# Altium integrated library TI Amplifiers and Linear Special Function Amplifier.IntLib: 708 symbols (part 24 of 47)
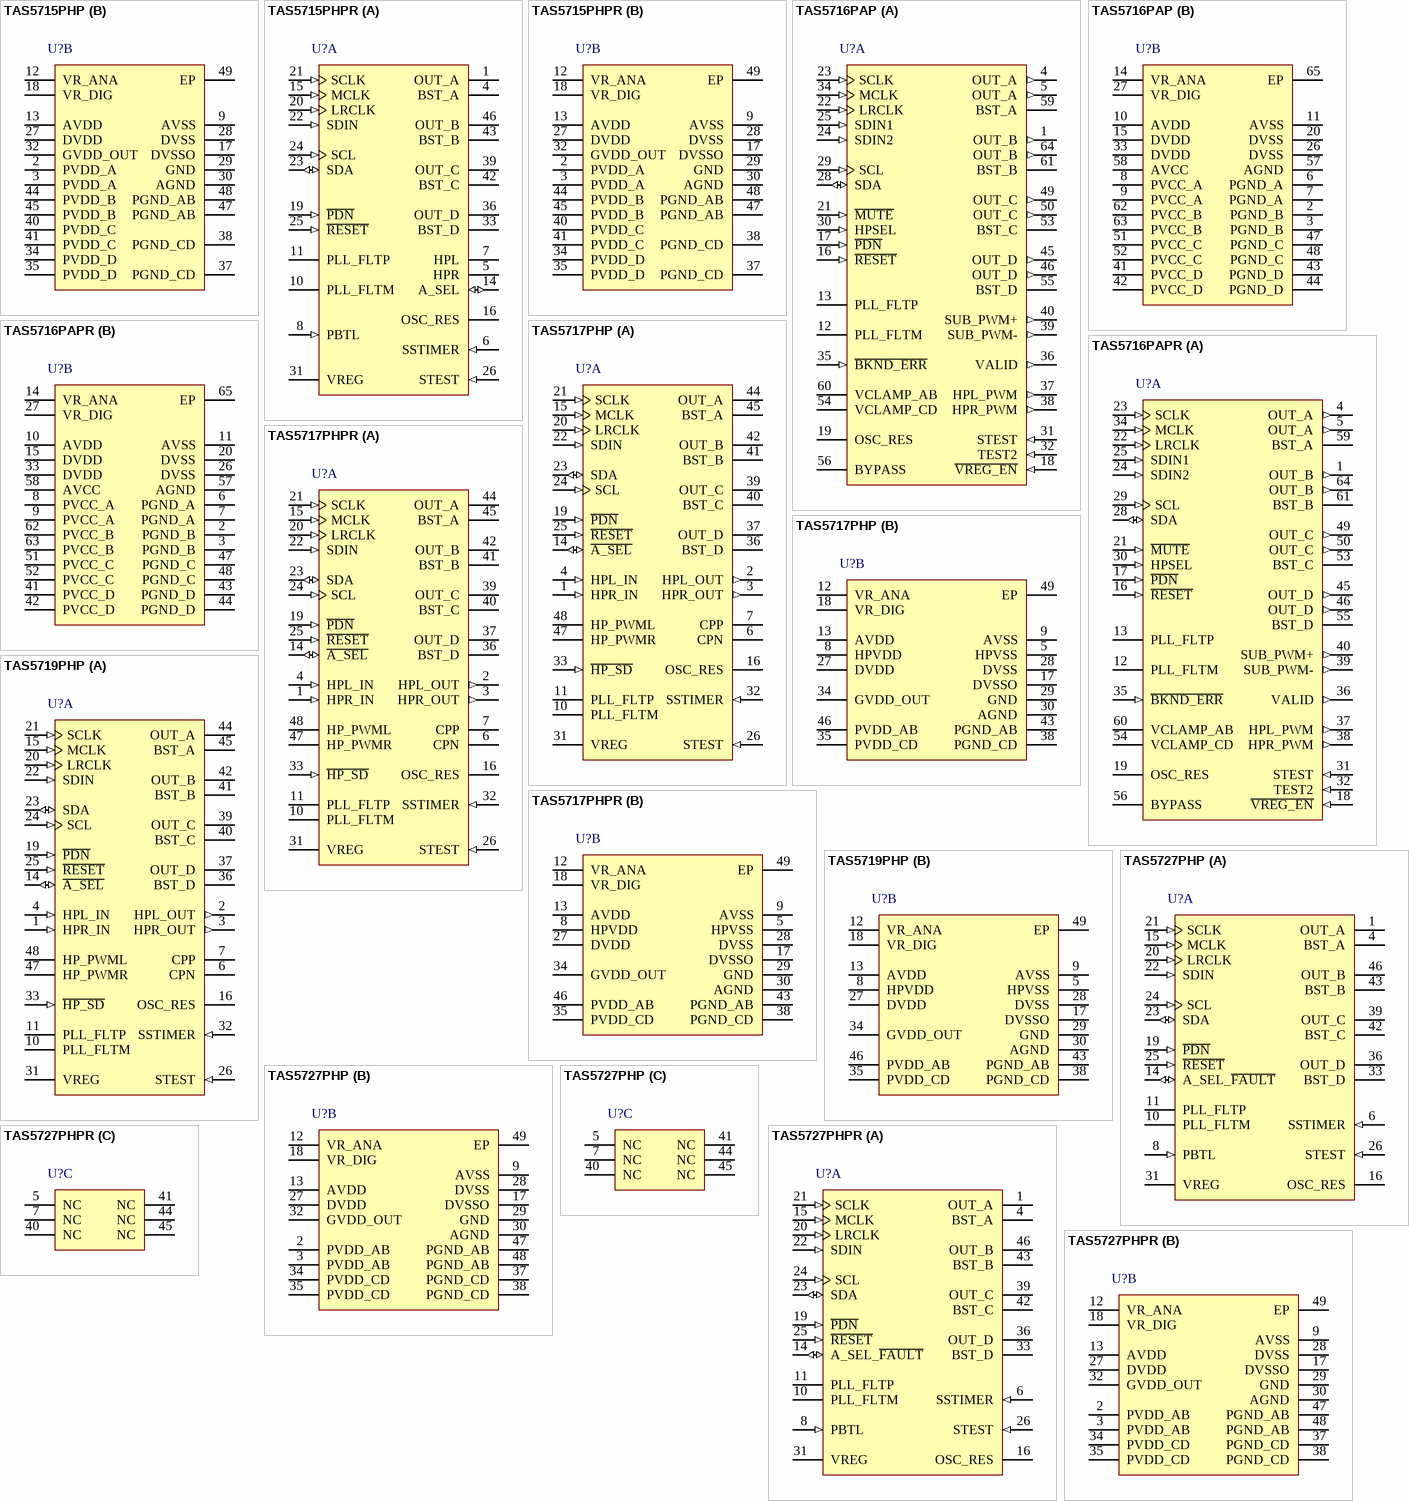
[diagram p62: symbols TAS5715PHP to TAS5727PHPR]

## TAS5717PHPR
designator U?
Digital Input Stereo Amplifier with Integrated CAP Free Headphone Amplifier, 0 to 85 degC, 48-pin QFP (PHP48), Green (RoHS & no Sb/Br); Manufacturer: Texas Instruments; PartNumber: TAS5717PHPR; Analog Supply Max [V]: 3.6; Analog Supply Min [V]: 3; Max. Number of Speaker Outputs: 2; Power Stage Supply Min(V): 4.5; SubFamily: Mid/High-Power Amplifier; DatasheetVersion: SLOS655A; PackageVersion: 4146927/B, 08/2003; PackageReference: PHP48-4550X3600TP; PackageDescription: 48-Pin PowerPAD(TM) Plastic Quad Flatpack, Body 7 x 7 mm, Pitch 0.5 mm; Supplier 1: Digi-Key; Supplier Part Number 1: 296-28062-2-ND; Supplier 2: Digi-Key; Supplier Part Number 2: 296-28062-1-ND; Supplier 3: Digi-Key; Supplier Part Number 3: 296-28062-6-ND; Supplier 4: Farnell; Supplier Part Number 4: 1854555; Supplier 5: Newark; Supplier Part Number 5: 13T8922; Supplier 6: Mouser; Supplier Part Number 6: 595-TAS5717PHPR; Digital Supply Min [V]: 3; Eco-Plan: Green (RoHS & no Sb/Br); Input Type: Digital; Mounting Technology: Surface Mount; Code_JEDEC: MS-026; ComponentLink1Description: Manufacturer URL; ComponentLink1URL: http://www.ti.com/; ComponentLink2Description: Datasheet; ComponentLink2URL: http://www.ti.com/general/docs/lit/getliterature.tsp?genericPartNumber=TAS5717&fileType=pdf; ComponentLink3Description: Package Specification; ComponentLink3URL: http://www.ti.com/litv/pdf/mpdi001b
footprint TI-PHP48-4550X3600TP_N (QFP, 48-Leads, Body 7x7mm, Pitch 0.5mm, Thermal Pad 5.17x4.04mm, IPC Medium Density)
footprint TI-PHP48-4550X3600TP_L (QFP, 48-Leads, Body 7x7mm, Pitch 0.5mm, Thermal Pad 5.17x4.04mm, IPC High Density)
footprint TI-PHP48-4550X3600TP_M (QFP, 48-Leads, Body 7x7mm, Pitch 0.5mm, Thermal Pad 5.17x4.04mm, IPC Low Density)
part A pins: 1 HPR_IN (in) "Headphone left IN (single-ended, analog IN)", 2 HPL_OUT (out) "Headphone left OUT (single-ended, analog OUT)", 3 HPR_OUT (out) "Headphone right OUT (single-ended, analog OUT)", 4 HPL_IN (in) "Headphone right IN (single-ended, analog IN)", 6 CPN "Charge-pump flying-capacitor negative connection", 7 CPP "Charge-pump flying-capacitor positive connection", 10 PLL_FLTM "PLL negative loop-filter terminal", 11 PLL_FLTP "PLL positive loop-filter terminal", 14 ~{A_SEL} (io) "This pin is monitored on the rising edge of RESET. A value of 0 makes the I2C dev address 0x54, and a value of 1 makes it 0x56.", 15 MCLK (in) "Master clock input", 16 OSC_RES "Oscillator trim resistor. Connect an 18-kO 1% resistor to DVSSO.", 19 ~{PDN} (in) "Power down, active-low. P\D\N\ prepares the device for loss of power supplies by shutting down the noise shaper and initiating the PWM stop sequence.", 20 LRCLK (in) "Input serial audio data left/right clock (sample rate clock)", 21 SCLK (in) "Serial audio data clock (shift clock). SCLK is the serial audio port input data bit clock.", 22 SDIN (in) "Serial audio data input. SDIN supports three discrete (stereo) data formats.", 23 SDA (io) "I2C serial control data interface input/output", 24 SCL (in) "I2C serial control clock input", 25 ~{RESET} (in) "Reset, active-low. A system reset is generated by applying a logic low to this pin. R\E\S\E\T\ is an asynchronous control signal that restores the DAP to its default conditions, and places the PWM in the hard-mute (See Datasheet)", 26 STEST (in) "Factory test pin. Connect directly to DVSS.", 31 VREG "Digital regulator output. Not to be used for powering external circuitry.", 32 SSTIMER (in) "Controls ramp time of OUT_X to minimize pop. Leave this pin floating for BD mode. Requires capacitor of 2.2 nF to GND in AD mode. The capacitor determines the ramp time.", 33 ~{HP_SD} (in) "Headphone shutdown (active-low)", 36 BST_D "High-side bootstrap supply for half-bridge D", 37 OUT_D (hiz) "Output, half-bridge D", 39 OUT_C (hiz) "Output, half-bridge C", 40 BST_C "High-side bootstrap supply for half-bridge C", 41 BST_B "High-side bootstrap supply for half-bridge B", 42 OUT_B (hiz) "Output, half-bridge B", 44 OUT_A (hiz) "Output, half-bridge A", 45 BST_A "High-side bootstrap supply for half-bridge A", 47 HP_PWMR (hiz) "PWM right-channel headphone out", 48 HP_PWML (hiz) "PWM left-channel headphone out"
part B pins: 5 HPVSS (power) "Headphone ground", 8 HPVDD (power) "Headphone supply", 9 AVSS (power) "Analog 3.3-V supply ground", 12 VR_ANA (power) "Internally regulated 1.8-V analog supply voltage. This pin must not be used to power external devices.", 13 AVDD (power) "3.3-V analog power supply", 17 DVSSO (power) "Oscillator ground", 18 VR_DIG (power) "Internally regulated 1.8-V digital supply voltage. This pin must not be used to power external devices.", 27 DVDD (power) "3.3-V digital power supply", 28 DVSS (power) "Digital ground", 29 GND (power) "Analog ground for power stage", 30 AGND (power) "Analog ground for power stage", 34 GVDD_OUT (power) "Gate drive internal regulator output", 35 PVDD_CD (power) "Power-supply input for half-bridge output C", 38 PGND_CD (power) "Power ground for half-bridges C and D", 43 PGND_AB (power) "Power ground for half-bridges A and B", 46 PVDD_AB (power) "Power-supply input for half-bridge output A", 49 EP

## TAS5719PHP
designator U?
Digital Input Stereo Amplifier with Integrated CAP Free Headphone Amplifier, 0 to 85 degC, 48-pin QFP (PHP48), Green (RoHS & no Sb/Br); Manufacturer: Texas Instruments; PartNumber: TAS5719PHP; Analog Supply Max [V]: 3.6; Analog Supply Min [V]: 3; Max. Number of Speaker Outputs: 2; Power Stage Supply Min(V): 4.5; SubFamily: Mid/High-Power Amplifier; DatasheetVersion: SLOS655A; PackageVersion: 4146927/B, 08/2003; PackageReference: PHP48-4550X3600TP; PackageDescription: 48-Pin PowerPAD(TM) Plastic Quad Flatpack, Body 7 x 7 mm, Pitch 0.5 mm; Supplier 1: Digi-Key; Supplier Part Number 1: 296-36735-ND; Supplier 2: Mouser; Supplier Part Number 2: 595-TAS5719PHP; Digital Supply Min [V]: 3; Eco-Plan: Green (RoHS & no Sb/Br); Input Type: Digital; Mounting Technology: Surface Mount; Code_JEDEC: MS-026; ComponentLink1Description: Manufacturer URL; ComponentLink1URL: http://www.ti.com/; ComponentLink2Description: Datasheet; ComponentLink2URL: http://www.ti.com/general/docs/lit/getliterature.tsp?genericPartNumber=TAS5719&fileType=pdf; ComponentLink3Description: Package Specification; ComponentLink3URL: http://www.ti.com/litv/pdf/mpdi001b
footprint TI-PHP48-4550X3600TP_N (QFP, 48-Leads, Body 7x7mm, Pitch 0.5mm, Thermal Pad 5.17x4.04mm, IPC Medium Density)
footprint TI-PHP48-4550X3600TP_L (QFP, 48-Leads, Body 7x7mm, Pitch 0.5mm, Thermal Pad 5.17x4.04mm, IPC High Density)
footprint TI-PHP48-4550X3600TP_M (QFP, 48-Leads, Body 7x7mm, Pitch 0.5mm, Thermal Pad 5.17x4.04mm, IPC Low Density)
part A pins: 1 HPR_IN (in) "Headphone left IN (single-ended, analog IN)", 2 HPL_OUT (out) "Headphone left OUT (single-ended, analog OUT)", 3 HPR_OUT (out) "Headphone right OUT (single-ended, analog OUT)", 4 HPL_IN (in) "Headphone right IN (single-ended, analog IN)", 6 CPN "Charge-pump flying-capacitor negative connection", 7 CPP "Charge-pump flying-capacitor positive connection", 10 PLL_FLTM "PLL negative loop-filter terminal", 11 PLL_FLTP "PLL positive loop-filter terminal", 14 ~{A_SEL} (io) "This pin is monitored on the rising edge of RESET. A value of 0 makes the I2C dev address 0x54, and a value of 1 makes it 0x56.", 15 MCLK (in) "Master clock input", 16 OSC_RES "Oscillator trim resistor. Connect an 18-kO 1% resistor to DVSSO.", 19 ~{PDN} (in) "Power down, active-low. P\D\N\ prepares the device for loss of power supplies by shutting down the noise shaper and initiating the PWM stop sequence.", 20 LRCLK (in) "Input serial audio data left/right clock (sample rate clock)", 21 SCLK (in) "Serial audio data clock (shift clock). SCLK is the serial audio port input data bit clock.", 22 SDIN (in) "Serial audio data input. SDIN supports three discrete (stereo) data formats.", 23 SDA (io) "I2C serial control data interface input/output", 24 SCL (in) "I2C serial control clock input", 25 ~{RESET} (in) "Reset, active-low. A system reset is generated by applying a logic low to this pin. R\E\S\E\T\ is an asynchronous control signal that restores the DAP to its default conditions, and places the PWM in the hard-mute (See Datasheet)", 26 STEST (in) "Factory test pin. Connect directly to DVSS.", 31 VREG "Digital regulator output. Not to be used for powering external circuitry.", 32 SSTIMER (in) "Controls ramp time of OUT_X to minimize pop. Leave this pin floating for BD mode. Requires capacitor of 2.2 nF to GND in AD mode. The capacitor determines the ramp time.", 33 ~{HP_SD} (in) "Headphone shutdown (active-low)", 36 BST_D "High-side bootstrap supply for half-bridge D", 37 OUT_D (hiz) "Output, half-bridge D", 39 OUT_C (hiz) "Output, half-bridge C", 40 BST_C "High-side bootstrap supply for half-bridge C", 41 BST_B "High-side bootstrap supply for half-bridge B", 42 OUT_B (hiz) "Output, half-bridge B", 44 OUT_A (hiz) "Output, half-bridge A", 45 BST_A "High-side bootstrap supply for half-bridge A", 47 HP_PWMR (hiz) "PWM right-channel headphone out", 48 HP_PWML (hiz) "PWM left-channel headphone out"
part B pins: 5 HPVSS (power) "Headphone ground", 8 HPVDD (power) "Headphone supply", 9 AVSS (power) "Analog 3.3-V supply ground", 12 VR_ANA (power) "Internally regulated 1.8-V analog supply voltage. This pin must not be used to power external devices.", 13 AVDD (power) "3.3-V analog power supply", 17 DVSSO (power) "Oscillator ground", 18 VR_DIG (power) "Internally regulated 1.8-V digital supply voltage. This pin must not be used to power external devices.", 27 DVDD (power) "3.3-V digital power supply", 28 DVSS (power) "Digital ground", 29 GND (power) "Analog ground for power stage", 30 AGND (power) "Analog ground for power stage", 34 GVDD_OUT (power) "Gate drive internal regulator output", 35 PVDD_CD (power) "Power-supply input for half-bridge output C", 38 PGND_CD (power) "Power ground for half-bridges C and D", 43 PGND_AB (power) "Power ground for half-bridges A and B", 46 PVDD_AB (power) "Power-supply input for half-bridge output A", 49 EP

## TAS5727PHP
designator U?
25 W Digital Audio Power Amplifier with EQ and 2-Band DRC, 0 to 85 degC, 48-pin QFP (PHP48), Green (RoHS & no Sb/Br); Manufacturer: Texas Instruments; PartNumber: TAS5727PHP; Analog Supply Max [V]: 3.6; Analog Supply Min [V]: 3; Power Stage Supply Min(V): 8; SubFamily: Mid/High-Power Amplifier; DatasheetVersion: SLOS670; PackageVersion: 4146927/B, 08/2003; PackageReference: PHP48-4550X3600TP; PackageDescription: 48-Pin PowerPAD(TM) Plastic Quad Flatpack, Body 7 x 7 mm, Pitch 0.5 mm; Supplier 1: Digi-Key; Supplier Part Number 1: 296-32736-ND; Supplier 2: Farnell; Supplier Part Number 2: 1882265; Supplier 3: Newark; Supplier Part Number 3: 32T3258; Supplier 4: Mouser; Supplier Part Number 4: 595-TAS5727PHP; Digital Supply Min [V]: 3; Eco-Plan: Green (RoHS & no Sb/Br); Input Type: Digital; Mounting Technology: Surface Mount; Code_JEDEC: MS-026; ComponentLink1Description: Manufacturer URL; ComponentLink1URL: http://www.ti.com/; ComponentLink2Description: Datasheet; ComponentLink2URL: http://www.ti.com/general/docs/lit/getliterature.tsp?genericPartNumber=TAS5727A&fileType=pdf; ComponentLink3Description: Package Specification; ComponentLink3URL: http://www.ti.com/litv/pdf/mpdi001b
footprint TI-PHP48-4550X3600TP_N (QFP, 48-Leads, Body 7x7mm, Pitch 0.5mm, Thermal Pad 5.17x4.04mm, IPC Medium Density)
footprint TI-PHP48-4550X3600TP_L (QFP, 48-Leads, Body 7x7mm, Pitch 0.5mm, Thermal Pad 5.17x4.04mm, IPC High Density)
footprint TI-PHP48-4550X3600TP_M (QFP, 48-Leads, Body 7x7mm, Pitch 0.5mm, Thermal Pad 5.17x4.04mm, IPC Low Density)
part A pins: 1 OUT_A (hiz) "Output, half-bridge A", 4 BST_A "High-side bootstrap supply for half-bridge A", 6 SSTIMER (in) "Controls ramp time of OUT_x to minimize pop. Leave this pin floating for BD mode. Requires capacitor of 2.2 nF to GND in AD mode. The capacitor determines the ramp time.", 8 PBTL (in) "Low means BTL mode; high means PBTL mode. Information goes directly to power stage.", 10 PLL_FLTM "PLL negative loop-filter terminal", 11 PLL_FLTP "PLL positive loop-filter terminal", 14 A_SEL_~{FAULT} (io) "This pin is monitored on the rising edge of R\E\S\E\T\.A value of 0 (15-kohm pulldown) sets the I2C device address 0x54 and a value of 1 (15-kohm pullup) sets it 0x56.this dual-function pin can be programmed to output (See Datasheet)", 15 MCLK (in) "Master clock input", 16 OSC_RES "Oscillator trim resistor. Connect an 18.2-kohm, 1% resistor to DVSSO.", 19 ~{PDN} (in) "Power down, active-low. P\D\N\ prepares the device for loss of power supplies by shutting down the noise shaper and initiating the PWM stop sequence.", 20 LRCLK (in) "Input serial audio data left/right clock (sample-rate clock)", 21 SCLK (in) "Serial audio-data clock (shift clock). SCLK is the serial-audio-port input-data bit clock.", 22 SDIN (in) "Serial audio data input. SDIN supports three discrete (stereo) data formats.", 23 SDA (io) "I2C serial control data interface input/output", 24 SCL (in) "I2C serial control clock input", 25 ~{RESET} (in) "Reset, active-low. A system reset is generated by applying a logic low to this pin. R\E\S\E\T\ is an asynchronous control signal that restores the DAP to its default conditions and places the PWM in the hard-mute (See Datasheet)", 26 STEST (in) "Factory test pin. Connect directly to DVSS.", 31 VREG "Digital regulator output. Not to be used for powering external circuitry.", 33 BST_D "High-side bootstrap supply for half-bridge D", 36 OUT_D (hiz) "Output, half-bridge D", 39 OUT_C (hiz) "Output, half-bridge C", 42 BST_C "High-side bootstrap supply for half-bridge C", 43 BST_B "High-side bootstrap supply for half-bridge B", 46 OUT_B (hiz) "Output, half-bridge B"
part B pins: 2 PVDD_AB (power) "Power-supply input for half-bridge output A", 3 PVDD_AB (power) "Power-supply input for half-bridge output A", 9 AVSS (power) "Analog 3.3-V supply ground", 12 VR_ANA (power) "Internally regulated 1.8-V analog supply voltage. This pin must not be used to power external devices.", 13 AVDD (power) "3.3-V analog power supply", 17 DVSSO (power) "Oscillator ground", 18 VR_DIG (power) "Internally regulated 1.8-V digital supply voltage. This pin must not be used to power external devices.", 27 DVDD (power) "3.3-V digital power supply", 28 DVSS (power) "Digital ground", 29 GND (power) "Analog ground for power stage", 30 AGND (power) "Local analog ground for power stage", 32 GVDD_OUT (power) "Gate drive internal regulator output", 34 PVDD_CD (power) "Power-supply input for half-bridge output D", 35 PVDD_CD (power) "Power-supply input for half-bridge output D", 37 PGND_CD (power) "Power ground for half-bridges C and D", 38 PGND_CD (power) "Power ground for half-bridges C and D", 47 PGND_AB (power) "Power ground for half-bridges A and B", 48 PGND_AB (power) "Power ground for half-bridges A and B", 49 EP
part C pins: 5 NC "No connect", 7 NC "No connect", 40 NC "No connect", 41 NC "No connect", 44 NC "No connect", 45 NC "No connect"

## TAS5727PHPR
designator U?
25 W Digital Audio Power Amplifier with EQ and 2-Band DRC, 0 to 85 degC, 48-pin QFP (PHP48), Green (RoHS & no Sb/Br); Manufacturer: Texas Instruments; PartNumber: TAS5727PHPR; Analog Supply Max [V]: 3.6; Analog Supply Min [V]: 3; Power Stage Supply Min(V): 8; SubFamily: Mid/High-Power Amplifier; DatasheetVersion: SLOS670; PackageVersion: 4146927/B, 08/2003; PackageReference: PHP48-4550X3600TP; PackageDescription: 48-Pin PowerPAD(TM) Plastic Quad Flatpack, Body 7 x 7 mm, Pitch 0.5 mm; Supplier 1: Digi-Key; Supplier Part Number 1: 296-28257-2-ND; Supplier 2: Digi-Key; Supplier Part Number 2: 296-28257-1-ND; Supplier 3: Digi-Key; Supplier Part Number 3: 296-28257-6-ND; Supplier 4: Newark; Supplier Part Number 4: 32T2368; Supplier 5: Mouser; Supplier Part Number 5: 595-TAS5727PHPR; Digital Supply Min [V]: 3; Eco-Plan: Green (RoHS & no Sb/Br); Input Type: Digital; Mounting Technology: Surface Mount; Code_JEDEC: MS-026; ComponentLink1Description: Manufacturer URL; ComponentLink1URL: http://www.ti.com/; ComponentLink2Description: Datasheet; ComponentLink2URL: http://www.ti.com/general/docs/lit/getliterature.tsp?genericPartNumber=TAS5727A&fileType=pdf; ComponentLink3Description: Package Specification; ComponentLink3URL: http://www.ti.com/litv/pdf/mpdi001b
footprint TI-PHP48-4550X3600TP_N (QFP, 48-Leads, Body 7x7mm, Pitch 0.5mm, Thermal Pad 5.17x4.04mm, IPC Medium Density)
footprint TI-PHP48-4550X3600TP_L (QFP, 48-Leads, Body 7x7mm, Pitch 0.5mm, Thermal Pad 5.17x4.04mm, IPC High Density)
footprint TI-PHP48-4550X3600TP_M (QFP, 48-Leads, Body 7x7mm, Pitch 0.5mm, Thermal Pad 5.17x4.04mm, IPC Low Density)
part A pins: 1 OUT_A (hiz) "Output, half-bridge A", 4 BST_A "High-side bootstrap supply for half-bridge A", 6 SSTIMER (in) "Controls ramp time of OUT_x to minimize pop. Leave this pin floating for BD mode. Requires capacitor of 2.2 nF to GND in AD mode. The capacitor determines the ramp time.", 8 PBTL (in) "Low means BTL mode; high means PBTL mode. Information goes directly to power stage.", 10 PLL_FLTM "PLL negative loop-filter terminal", 11 PLL_FLTP "PLL positive loop-filter terminal", 14 A_SEL_~{FAULT} (io) "This pin is monitored on the rising edge of R\E\S\E\T\.A value of 0 (15-kohm pulldown) sets the I2C device address 0x54 and a value of 1 (15-kohm pullup) sets it 0x56.this dual-function pin can be programmed to output (See Datasheet)", 15 MCLK (in) "Master clock input", 16 OSC_RES "Oscillator trim resistor. Connect an 18.2-kohm, 1% resistor to DVSSO.", 19 ~{PDN} (in) "Power down, active-low. P\D\N\ prepares the device for loss of power supplies by shutting down the noise shaper and initiating the PWM stop sequence.", 20 LRCLK (in) "Input serial audio data left/right clock (sample-rate clock)", 21 SCLK (in) "Serial audio-data clock (shift clock). SCLK is the serial-audio-port input-data bit clock.", 22 SDIN (in) "Serial audio data input. SDIN supports three discrete (stereo) data formats.", 23 SDA (io) "I2C serial control data interface input/output", 24 SCL (in) "I2C serial control clock input", 25 ~{RESET} (in) "Reset, active-low. A system reset is generated by applying a logic low to this pin. R\E\S\E\T\ is an asynchronous control signal that restores the DAP to its default conditions and places the PWM in the hard-mute (See Datasheet)", 26 STEST (in) "Factory test pin. Connect directly to DVSS.", 31 VREG "Digital regulator output. Not to be used for powering external circuitry.", 33 BST_D "High-side bootstrap supply for half-bridge D", 36 OUT_D (hiz) "Output, half-bridge D", 39 OUT_C (hiz) "Output, half-bridge C", 42 BST_C "High-side bootstrap supply for half-bridge C", 43 BST_B "High-side bootstrap supply for half-bridge B", 46 OUT_B (hiz) "Output, half-bridge B"
part B pins: 2 PVDD_AB (power) "Power-supply input for half-bridge output A", 3 PVDD_AB (power) "Power-supply input for half-bridge output A", 9 AVSS (power) "Analog 3.3-V supply ground", 12 VR_ANA (power) "Internally regulated 1.8-V analog supply voltage. This pin must not be used to power external devices.", 13 AVDD (power) "3.3-V analog power supply", 17 DVSSO (power) "Oscillator ground", 18 VR_DIG (power) "Internally regulated 1.8-V digital supply voltage. This pin must not be used to power external devices.", 27 DVDD (power) "3.3-V digital power supply", 28 DVSS (power) "Digital ground", 29 GND (power) "Analog ground for power stage", 30 AGND (power) "Local analog ground for power stage", 32 GVDD_OUT (power) "Gate drive internal regulator output", 34 PVDD_CD (power) "Power-supply input for half-bridge output D", 35 PVDD_CD (power) "Power-supply input for half-bridge output D", 37 PGND_CD (power) "Power ground for half-bridges C and D", 38 PGND_CD (power) "Power ground for half-bridges C and D", 47 PGND_AB (power) "Power ground for half-bridges A and B", 48 PGND_AB (power) "Power ground for half-bridges A and B", 49 EP
part C pins: 5 NC "No connect", 7 NC "No connect", 40 NC "No connect", 41 NC "No connect", 44 NC "No connect", 45 NC "No connect"

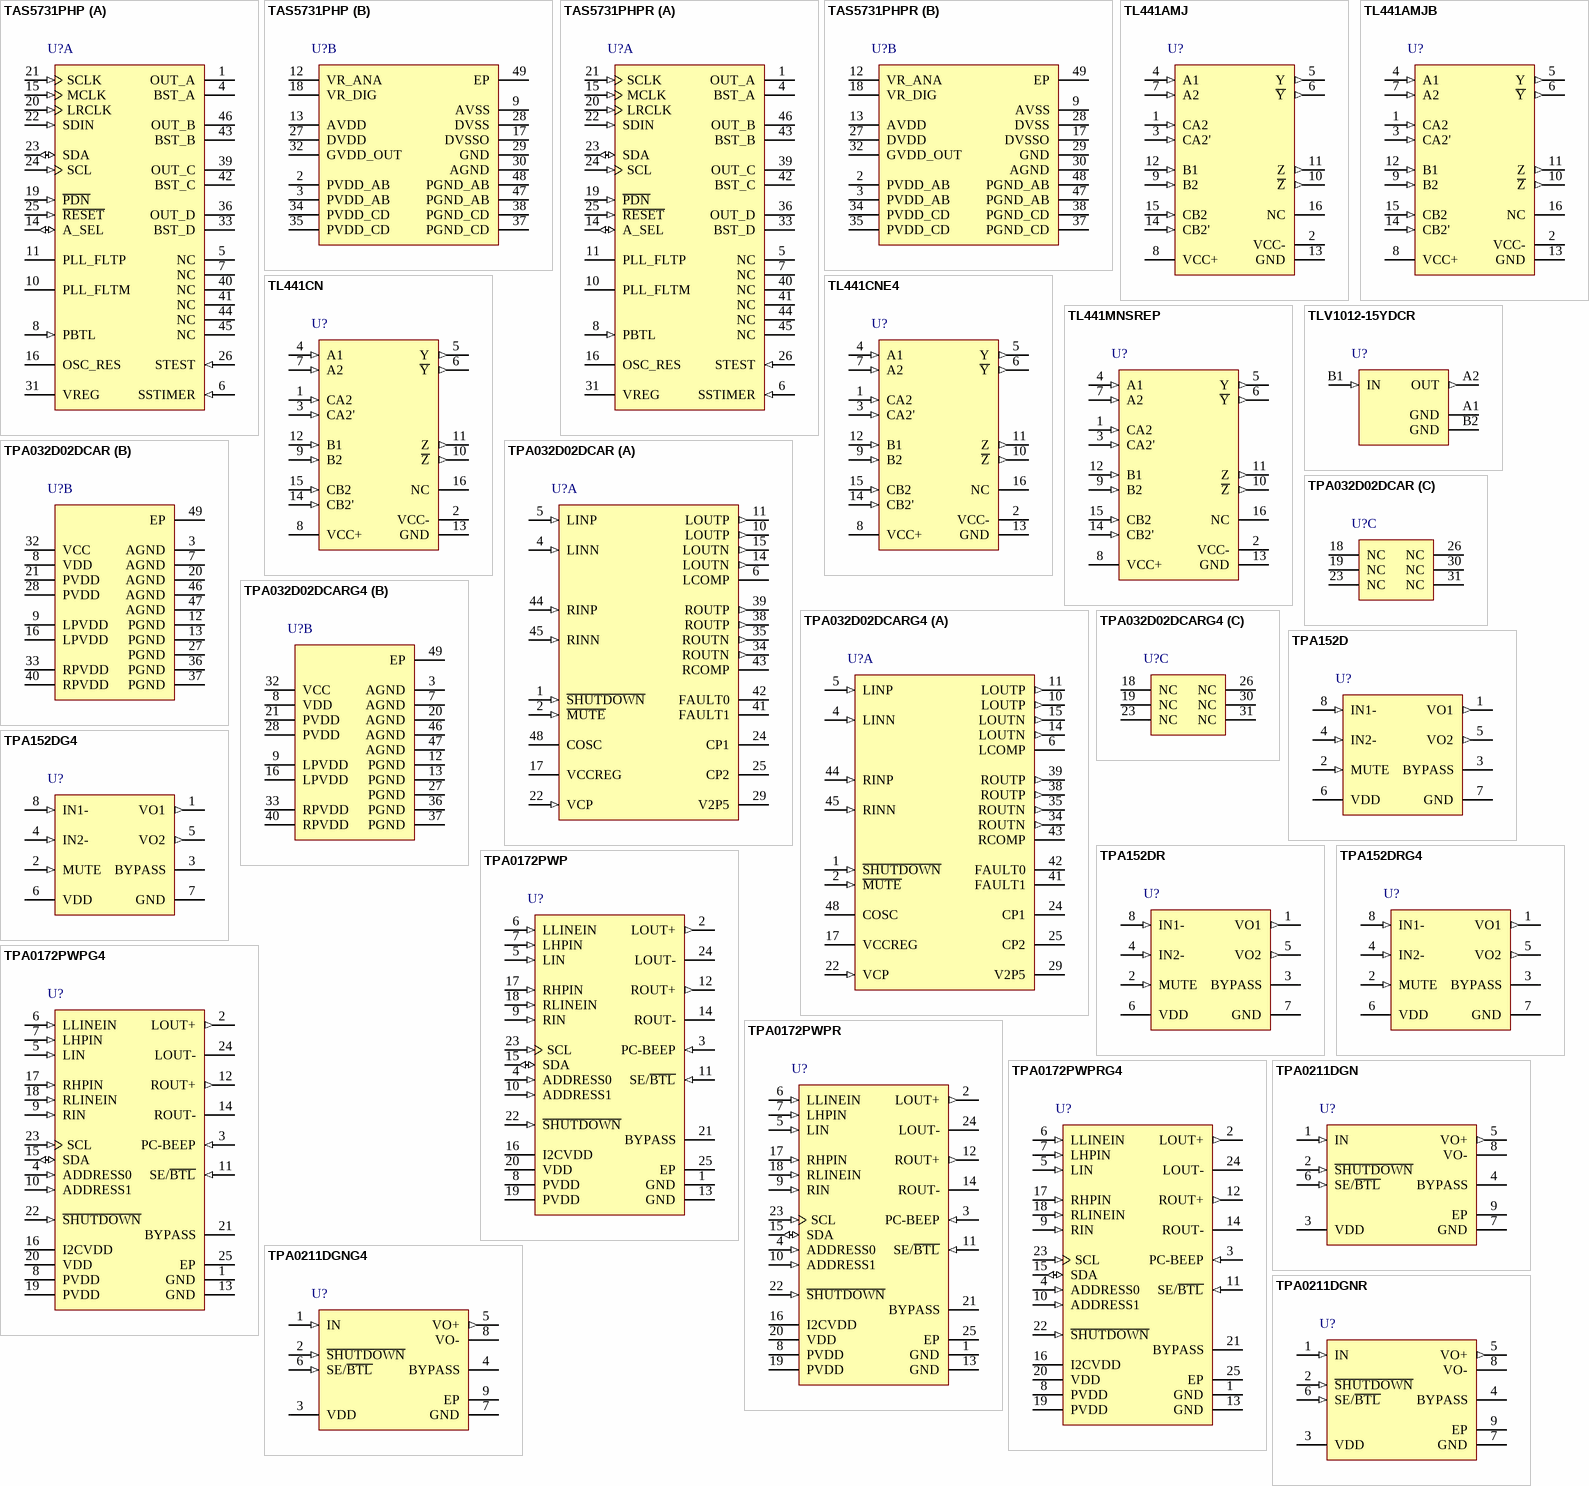
[diagram p23: symbols TAS5731PHP to TPA0211DGNR]

## TAS5731PHP
designator U?
20 W Stereo (2.1) Class-D Audio Amplifier with Audio Processing, 0 to 85 degC, 48-pin QFP (PHP48), Green (RoHS & no Sb/Br); Manufacturer: Texas Instruments; PartNumber: TAS5731PHP; Analog Supply Max [V]: 3.6; Analog Supply Min [V]: 3; Input Type: Digital; Power Stage Supply Min(V): 8; SubFamily: Mid/High-Power Amplifier; DatasheetVersion: SLOS726; PackageVersion: 4146927/B, 08/2003; PackageReference: PHP48-4550X3600TP; PackageDescription: 48-Pin PowerPAD(TM) Plastic Quad Flatpack, Body 7 x 7 mm, Pitch 0.5 mm; Supplier 1: Digi-Key; Supplier Part Number 1: 296-34191-5-ND; Supplier 2: Farnell; Supplier Part Number 2: 2097124; Supplier 3: Newark; Supplier Part Number 3: 76T8032; Supplier 4: Mouser; Supplier Part Number 4: 595-TAS5731PHP; Eco-Plan: Green (RoHS & no Sb/Br); Mounting Technology: Surface Mount; Code_JEDEC: MS-026; ComponentLink1Description: Manufacturer URL; ComponentLink1URL: http://www.ti.com/; ComponentLink2Description: Datasheet; ComponentLink2URL: http://www.ti.com/general/docs/lit/getliterature.tsp?genericPartNumber=TAS5731&fileType=pdf; ComponentLink3Description: Package Specification; ComponentLink3URL: http://www.ti.com/litv/pdf/mpdi001b
footprint TI-PHP48-4550X3600TP_N (QFP, 48-Leads, Body 7x7mm, Pitch 0.5mm, Thermal Pad 5.17x4.04mm, IPC Medium Density)
footprint TI-PHP48-4550X3600TP_L (QFP, 48-Leads, Body 7x7mm, Pitch 0.5mm, Thermal Pad 5.17x4.04mm, IPC High Density)
footprint TI-PHP48-4550X3600TP_M (QFP, 48-Leads, Body 7x7mm, Pitch 0.5mm, Thermal Pad 5.17x4.04mm, IPC Low Density)
part A pins: 1 OUT_A (hiz) "Output, half-bridge A", 4 BST_A "High-side bootstrap supply for half-bridge A", 5 NC "No connect", 6 SSTIMER (in) "Controls ramp time of OUT_x to minimize pop. Leave this pin floating for BD mode. Requires capacitor of 2.2 nF to GND in AD mode. The capacitor determines the ramp time.", 7 NC "No connect", 8 PBTL (in) "Low means BTL mode; high means PBTL mode. Information goes directly to power stage.", 10 PLL_FLTM "PLL negative loop-filter terminal", 11 PLL_FLTP "PLL positive loop-filter terminal", 14 A_SEL (io) "A value of 0 (15-kohm pulldown) makes the I2C device address 0x34,and a value of 1 (15-kohm pullup) makes it 0x36.", 15 MCLK (in) "Master clock input", 16 OSC_RES "Oscillator trim resistor. Connect an 18.2-kohm, 1% resistor to DVSSO.", 19 ~{PDN} (in) "Power down, active-low. P\D\N\ prepares the device for loss of power supplies by shutting down the noise shaper and initiating the PWM stop sequence.", 20 LRCLK (in) "Input serial audio data left/right clock (sample-rate clock)", 21 SCLK (in) "Serial audio-data clock (shift clock). SCLK is the serial-audio-port input-data bit clock.", 22 SDIN (in) "Serial audio data input. SDIN supports three discrete (stereo) data formats.", 23 SDA (io) "I2C serial control data interface input/output", 24 SCL (in) "I2C serial control clock input", 25 ~{RESET} (in) "Reset, active-low. A system reset is generated by applying a logic low to this pin. R\E\S\E\T\ is an asynchronous control signal that restores the DAP to its default conditions and places the PWM in the hard-mute (See Datasheet)", 26 STEST (in) "Factory test pin. Connect directly to DVSS.", 31 VREG "Digital regulator output. Not to be used for powering external circuitry.", 33 BST_D "High-side bootstrap supply for half-bridge D", 36 OUT_D (hiz) "Output, half-bridge D", 39 OUT_C (hiz) "Output, half-bridge C", 40 NC "No connect", 41 NC "No connect", 42 BST_C "High-side bootstrap supply for half-bridge C", 43 BST_B "High-side bootstrap supply for half-bridge B", 44 NC "No connect", 45 NC "No connect", 46 OUT_B (hiz) "Output, half-bridge B"
part B pins: 2 PVDD_AB (power) "Power-supply input for half-bridge output A", 3 PVDD_AB (power) "Power-supply input for half-bridge output A", 9 AVSS (power) "Analog 3.3-V supply ground", 12 VR_ANA (power) "Internally regulated 1.8-V analog supply voltage. This pin must not be used to power external devices.", 13 AVDD (power) "3.3-V analog power supply", 17 DVSSO (power) "Oscillator ground", 18 VR_DIG (power) "Internally regulated 1.8-V digital supply voltage. This pin must not be used to power external devices.", 27 DVDD (power) "3.3-V digital power supply", 28 DVSS (power) "Digital ground", 29 GND (power) "Analog ground for power stage", 30 AGND (power) "Local analog ground for power stage", 32 GVDD_OUT (power) "Gate drive internal regulator output", 34 PVDD_CD (power) "Power-supply input for half-bridge output D", 35 PVDD_CD (power) "Power-supply input for half-bridge output D", 37 PGND_CD (power) "Power ground for half-bridges C and D", 38 PGND_CD (power) "Power ground for half-bridges C and D", 47 PGND_AB (power) "Power ground for half-bridges A and B", 48 PGND_AB (power) "Power ground for half-bridges A and B", 49 EP

## TAS5731PHPR
designator U?
20 W Stereo (2.1) Class-D Audio Amplifier with Audio Processing, 0 to 85 degC, 48-pin QFP (PHP48), Green (RoHS & no Sb/Br); Manufacturer: Texas Instruments; PartNumber: TAS5731PHPR; Analog Supply Max [V]: 3.6; Analog Supply Min [V]: 3; Input Type: Digital; Power Stage Supply Min(V): 8; SubFamily: Mid/High-Power Amplifier; DatasheetVersion: SLOS726; PackageVersion: 4146927/B, 08/2003; PackageReference: PHP48-4550X3600TP; PackageDescription: 48-Pin PowerPAD(TM) Plastic Quad Flatpack, Body 7 x 7 mm, Pitch 0.5 mm; Supplier 1: Digi-Key; Supplier Part Number 1: 296-30191-2-ND; Supplier 2: Digi-Key; Supplier Part Number 2: 296-30191-1-ND; Supplier 3: Digi-Key; Supplier Part Number 3: 296-30191-6-ND; Supplier 4: Farnell; Supplier Part Number 4: 2082427; Supplier 5: Mouser; Supplier Part Number 5: 595-TAS5731PHPR; Eco-Plan: Green (RoHS & no Sb/Br); Mounting Technology: Surface Mount; Code_JEDEC: MS-026; ComponentLink1Description: Manufacturer URL; ComponentLink1URL: http://www.ti.com/; ComponentLink2Description: Datasheet; ComponentLink2URL: http://www.ti.com/general/docs/lit/getliterature.tsp?genericPartNumber=TAS5731&fileType=pdf; ComponentLink3Description: Package Specification; ComponentLink3URL: http://www.ti.com/litv/pdf/mpdi001b
footprint TI-PHP48-4550X3600TP_N (QFP, 48-Leads, Body 7x7mm, Pitch 0.5mm, Thermal Pad 5.17x4.04mm, IPC Medium Density)
footprint TI-PHP48-4550X3600TP_L (QFP, 48-Leads, Body 7x7mm, Pitch 0.5mm, Thermal Pad 5.17x4.04mm, IPC High Density)
footprint TI-PHP48-4550X3600TP_M (QFP, 48-Leads, Body 7x7mm, Pitch 0.5mm, Thermal Pad 5.17x4.04mm, IPC Low Density)
part A pins: 1 OUT_A (hiz) "Output, half-bridge A", 4 BST_A "High-side bootstrap supply for half-bridge A", 5 NC "No connect", 6 SSTIMER (in) "Controls ramp time of OUT_x to minimize pop. Leave this pin floating for BD mode. Requires capacitor of 2.2 nF to GND in AD mode. The capacitor determines the ramp time.", 7 NC "No connect", 8 PBTL (in) "Low means BTL mode; high means PBTL mode. Information goes directly to power stage.", 10 PLL_FLTM "PLL negative loop-filter terminal", 11 PLL_FLTP "PLL positive loop-filter terminal", 14 A_SEL (io) "A value of 0 (15-kohm pulldown) makes the I2C device address 0x34,and a value of 1 (15-kohm pullup) makes it 0x36.", 15 MCLK (in) "Master clock input", 16 OSC_RES "Oscillator trim resistor. Connect an 18.2-kohm, 1% resistor to DVSSO.", 19 ~{PDN} (in) "Power down, active-low. P\D\N\ prepares the device for loss of power supplies by shutting down the noise shaper and initiating the PWM stop sequence.", 20 LRCLK (in) "Input serial audio data left/right clock (sample-rate clock)", 21 SCLK (in) "Serial audio-data clock (shift clock). SCLK is the serial-audio-port input-data bit clock.", 22 SDIN (in) "Serial audio data input. SDIN supports three discrete (stereo) data formats.", 23 SDA (io) "I2C serial control data interface input/output", 24 SCL (in) "I2C serial control clock input", 25 ~{RESET} (in) "Reset, active-low. A system reset is generated by applying a logic low to this pin. R\E\S\E\T\ is an asynchronous control signal that restores the DAP to its default conditions and places the PWM in the hard-mute (See Datasheet)", 26 STEST (in) "Factory test pin. Connect directly to DVSS.", 31 VREG "Digital regulator output. Not to be used for powering external circuitry.", 33 BST_D "High-side bootstrap supply for half-bridge D", 36 OUT_D (hiz) "Output, half-bridge D", 39 OUT_C (hiz) "Output, half-bridge C", 40 NC "No connect", 41 NC "No connect", 42 BST_C "High-side bootstrap supply for half-bridge C", 43 BST_B "High-side bootstrap supply for half-bridge B", 44 NC "No connect", 45 NC "No connect", 46 OUT_B (hiz) "Output, half-bridge B"
part B pins: 2 PVDD_AB (power) "Power-supply input for half-bridge output A", 3 PVDD_AB (power) "Power-supply input for half-bridge output A", 9 AVSS (power) "Analog 3.3-V supply ground", 12 VR_ANA (power) "Internally regulated 1.8-V analog supply voltage. This pin must not be used to power external devices.", 13 AVDD (power) "3.3-V analog power supply", 17 DVSSO (power) "Oscillator ground", 18 VR_DIG (power) "Internally regulated 1.8-V digital supply voltage. This pin must not be used to power external devices.", 27 DVDD (power) "3.3-V digital power supply", 28 DVSS (power) "Digital ground", 29 GND (power) "Analog ground for power stage", 30 AGND (power) "Local analog ground for power stage", 32 GVDD_OUT (power) "Gate drive internal regulator output", 34 PVDD_CD (power) "Power-supply input for half-bridge output D", 35 PVDD_CD (power) "Power-supply input for half-bridge output D", 37 PGND_CD (power) "Power ground for half-bridges C and D", 38 PGND_CD (power) "Power ground for half-bridges C and D", 47 PGND_AB (power) "Power ground for half-bridges A and B", 48 PGND_AB (power) "Power ground for half-bridges A and B", 49 EP

## TL441AMJ
designator U?
Logarithmic Amplifier, -55 to 125 degC, 16-pin DIP (J16); Manufacturer: Texas Instruments; PartNumber: TL441AMJ; Full-Scale Output Voltage(Max)(+/- V): 5.85; Full-Scale Output Voltage(Min)(+/- V): 5.45; Iq(Max)(mA): 23; DatasheetVersion: SLFS038; PackageVersion: 4040083/F, 03/2003; PackageReference: J16; PackageDescription: 16-Pin Ceramic, Glass In-Line, Row Spacing 7.62 mm, Pitch 2.54 mm; SubFamily: Logarithmic Amplifier; Mounting Technology: Through Hole; ComponentLink1Description: Manufacturer URL; ComponentLink1URL: http://www.ti.com/; ComponentLink2Description: Datasheet; ComponentLink2URL: http://www.ti.com/general/docs/lit/getliterature.tsp?genericPartNumber=TL441A&fileType=pdf; ComponentLink3Description: Package Specification; ComponentLink3URL: http://www.ti.com/lit/ds/symlink/uc1543.pdf
footprint TI-J16 (DIP, 16-Leads, Body 21.34x6.92 mm, Pitch 2.54 mm)
pins: 1 CA2 (in), 2 VCC- (power), 3 CA2' (in), 4 A1 (in), 5 Y (out), 6 ~{Y} (out), 7 A2 (in), 8 VCC+ (power), 9 B2 (in), 10 ~{Z} (out), 11 Z (out), 12 B1 (in), 13 GND (power), 14 CB2' (in), 15 CB2 (in), 16 NC

## TL441AMJB
designator U?
Logarithmic Amplifier, -55 to 125 degC, 16-pin DIP (J16); Manufacturer: Texas Instruments; PartNumber: TL441AMJB; Full-Scale Output Voltage(Max)(+/- V): 5.85; Full-Scale Output Voltage(Min)(+/- V): 5.45; Iq(Max)(mA): 23; DatasheetVersion: SLFS038; PackageVersion: 4040083/F, 03/2003; PackageReference: J16; PackageDescription: 16-Pin Ceramic, Glass In-Line, Row Spacing 7.62 mm, Pitch 2.54 mm; SubFamily: Logarithmic Amplifier; Mounting Technology: Through Hole; ComponentLink1Description: Manufacturer URL; ComponentLink1URL: http://www.ti.com/; ComponentLink2Description: Datasheet; ComponentLink2URL: http://www.ti.com/general/docs/lit/getliterature.tsp?genericPartNumber=TL441A&fileType=pdf; ComponentLink3Description: Package Specification; ComponentLink3URL: http://www.ti.com/lit/ds/symlink/uc1543.pdf
footprint TI-J16 (DIP, 16-Leads, Body 21.34x6.92 mm, Pitch 2.54 mm)
pins: 1 CA2 (in), 2 VCC- (power), 3 CA2' (in), 4 A1 (in), 5 Y (out), 6 ~{Y} (out), 7 A2 (in), 8 VCC+ (power), 9 B2 (in), 10 ~{Z} (out), 11 Z (out), 12 B1 (in), 13 GND (power), 14 CB2' (in), 15 CB2 (in), 16 NC

## TL441CN
designator U?
Logarithmic Amplifier, 0 to 70 degC, 16-pin DIP (N16), Pb-Free (RoHS); Manufacturer: Texas Instruments; PartNumber: TL441CN; Iq(Max)(mA): 23; DatasheetVersion: SLVS328; PackageVersion: 4040049/E, 12/2002; PackageReference: N16; PackageDescription: 16-Pin Plastic In-Line, Body 19.305 x 6.35 mm, Pitch 2.54 mm; Supplier 1: Digi-Key; Supplier Part Number 1: 296-34310-5-ND; Supplier 2: Newark; Supplier Part Number 2: 76C9270; Supplier 3: Mouser; Supplier Part Number 3: 595-TL441CN; Eco-Plan: Pb-Free (RoHS); SubFamily: Logarithmic Amplifier; Mounting Technology: Through Hole; Code_JEDEC: MS-001; ComponentLink1Description: Manufacturer URL; ComponentLink1URL: http://www.ti.com/; ComponentLink2Description: Datasheet; ComponentLink2URL: http://www.ti.com/general/docs/lit/getliterature.tsp?genericPartNumber=TL441&fileType=pdf; ComponentLink3Description: Package Specification; ComponentLink3URL: http://www.ti.com/litv/pdf/mpdi002c
footprint TI-N16 (DIP, 16-Leads, Body 19.7x6.6mm, Pitch 2.54mm)
pins: 1 CA2 (in), 2 VCC- (power), 3 CA2' (in), 4 A1 (in), 5 Y (out), 6 ~{Y} (out), 7 A2 (in), 8 VCC+ (power), 9 B2 (in), 10 ~{Z} (out), 11 Z (out), 12 B1 (in), 13 GND (power), 14 CB2' (in), 15 CB2 (in), 16 NC

## TL441CNE4
designator U?
Logarithmic Amplifier, 0 to 70 degC, 16-pin DIP (N16), Pb-Free (RoHS); Manufacturer: Texas Instruments; PartNumber: TL441CNE4; Iq(Max)(mA): 23; DatasheetVersion: SLVS328; PackageVersion: 4040049/E, 12/2002; PackageReference: N16; PackageDescription: 16-Pin Plastic In-Line, Body 19.305 x 6.35 mm, Pitch 2.54 mm; Supplier 1: Digi-Key; Supplier Part Number 1: TL441CNE4-ND; Supplier 2: Newark; Supplier Part Number 2: 37K4532; Supplier 3: Mouser; Supplier Part Number 3: 595-TL441CNE4; Eco-Plan: Pb-Free (RoHS); SubFamily: Logarithmic Amplifier; Mounting Technology: Through Hole; Code_JEDEC: MS-001; ComponentLink1Description: Manufacturer URL; ComponentLink1URL: http://www.ti.com/; ComponentLink2Description: Datasheet; ComponentLink2URL: http://www.ti.com/general/docs/lit/getliterature.tsp?genericPartNumber=TL441&fileType=pdf; ComponentLink3Description: Package Specification; ComponentLink3URL: http://www.ti.com/litv/pdf/mpdi002c
footprint TI-N16 (DIP, 16-Leads, Body 19.7x6.6mm, Pitch 2.54mm)
pins: 1 CA2 (in), 2 VCC- (power), 3 CA2' (in), 4 A1 (in), 5 Y (out), 6 ~{Y} (out), 7 A2 (in), 8 VCC+ (power), 9 B2 (in), 10 ~{Z} (out), 11 Z (out), 12 B1 (in), 13 GND (power), 14 CB2' (in), 15 CB2 (in), 16 NC

## TL441MNSREP
designator U?
Enhanced Product Logarithmic Amplifier, -55 to 125 degC, 16-pin SOP (NS16), Green (RoHS & no Sb/Br); Manufacturer: Texas Instruments; PartNumber: TL441MNSREP; Full-Scale Output Voltage(Max)(+/- V): 5.85; Full-Scale Output Voltage(Min)(+/- V): 5.45; Iq(Max)(mA): 23; Offset Voltage (Input Amplifiers)(Max)(mV): +/- 70; DatasheetVersion: SGLS268; PackageVersion: 4040062/C, 03/2003; PackageReference: NS16; PackageDescription: 16-Pin Plastic Small Outline, Body 10.20 x 5.30 mm, Pitch 1.27 mm; Supplier 1: Digi-Key; Supplier Part Number 1: 296-18137-2-ND; Supplier 2: Digi-Key; Supplier Part Number 2: 296-18137-1-ND; Supplier 3: Digi-Key; Supplier Part Number 3: 296-18137-6-ND; Supplier 4: Newark; Supplier Part Number 4: 46M1061; Supplier 5: Mouser; Supplier Part Number 5: 595-TL441MNSREP; Eco-Plan: Green (RoHS & no Sb/Br); SubFamily: Logarithmic Amplifier; Mounting Technology: Surface Mount; ComponentLink1Description: Manufacturer URL; ComponentLink1URL: http://www.ti.com/; ComponentLink2Description: Datasheet; ComponentLink2URL: http://www.ti.com/general/docs/lit/getliterature.tsp?genericPartNumber=TL441-EP&fileType=pdf; ComponentLink3Description: Package Specification; ComponentLink3URL: http://www.ti.com/litv/pdf/msop002a
footprint TI-NS16_N (SOP, 16-Leads, Body 10.2x5.3mm, Pitch 1.27mm, IPC Medium Density)
footprint TI-NS16_L (SOP, 16-Leads, Body 10.2x5.3mm, Pitch 1.27mm, IPC High Density)
footprint TI-NS16_M (SOP, 16-Leads, Body 10.2x5.3mm, Pitch 1.27mm, IPC Low Density)
pins: 1 CA2 (in), 2 VCC- (power), 3 CA2' (in), 4 A1 (in), 5 Y (out), 6 ~{Y} (out), 7 A2 (in), 8 VCC+ (power), 9 B2 (in), 10 ~{Z} (out), 11 Z (out), 12 B1 (in), 13 GND (power), 14 CB2' (in), 15 CB2 (in), 16 NC

## TLV1012-15YDCR
designator U?
Amplifier for High-Gain Two-Wire Microphone, -40 to 85 degC, 4-pin BGA (YDC4), Green (RoHS & no Sb/Br); Manufacturer: Texas Instruments; PartNumber: TLV1012-15YDCR; SubFamily: Microphone Preamplifier; Vmax(V): 5; Vmin(V): 2; DatasheetVersion: SLCS154A; PackageVersion: 4208096/C, 07/2008; PackageReference: YDC4; PackageDescription: 4-Ball Silicon Grid Array, Body 1.117 x 1.117 mm, Pitch 0.5 mm; Supplier 1: Digi-Key; Supplier Part Number 1: 296-24765-2-ND; Supplier 2: Digi-Key; Supplier Part Number 2: 296-24765-1-ND; Supplier 3: Digi-Key; Supplier Part Number 3: 296-24765-6-ND; Supplier 4: Newark; Supplier Part Number 4: 85M0150; Supplier 5: Mouser; Supplier Part Number 5: 595-TLV1012-15YDCR; Eco-Plan: Green (RoHS & no Sb/Br); Mounting Technology: Surface Mount; ComponentLink1Description: Manufacturer URL; ComponentLink1URL: http://www.ti.com/; ComponentLink2Description: Datasheet; ComponentLink2URL: http://www.ti.com/general/docs/lit/getliterature.tsp?genericPartNumber=TLV1012&fileType=pdf; ComponentLink3Description: Package Specification; ComponentLink3URL: http://www.ti.com/lit/ml/mxbg068b/mxbg068b.pdf
footprint TI-YDC4 (BGA, 4-Balls, Body 1.117x1.117mm, Pitch 0.5mm)
pins: A1 GND (power), A2 OUT (out), B1 IN (in), B2 GND (power)

## TPA032D02DCAR
designator U?
Stereo Medium Power Class-D Audio Amplifier, -40 to 125 degC, 48-pin SOP (DCA48), Green (RoHS & no Sb/Br); Manufacturer: Texas Instruments; PartNumber: TPA032D02DCAR; Input Type: Analog; Max. Number of Speaker Outputs: 2; SubFamily: Mid/High-Power Amplifier; DatasheetVersion: SLOS243B; PackageVersion: 4073259-2/E, 07/2011; PackageReference: DCA48-5815X2675TP; PackageDescription: 48-Pin PowerPAD(TM) Plastic Small-Outline, Body 6.1 x 12.5 mm, Pitch 0.5 mm; Supplier 1: Digi-Key; Supplier Part Number 1: 296-2462-2-ND; Supplier 2: Digi-Key; Supplier Part Number 2: 296-2462-1-ND; Supplier 3: Digi-Key; Supplier Part Number 3: 296-2462-6-ND; Supplier 4: Mouser; Supplier Part Number 4: 595-TPA032D02DCAR; Eco-Plan: Green (RoHS & no Sb/Br); Mounting Technology: Surface Mount; Code_JEDEC: MO-153; ComponentLink1Description: Manufacturer URL; ComponentLink1URL: http://www.ti.com/; ComponentLink2Description: Datasheet; ComponentLink2URL: http://www.ti.com/general/docs/lit/getliterature.tsp?genericPartNumber=TPA032D02&fileType=pdf; ComponentLink3Description: Package Specification; ComponentLink3URL: http://www.ti.com/lit/ds/symlink/tpa032d02.pdf
footprint TI-DCA48-5815X2675TP_N (SOP, 48-Leads, Body 12.5x6.1mm, Pitch 0.5mm, Thermal Pad 3.05x6.33mm, IPC Medium Density)
footprint TI-DCA48-5815X2675TP_L (SOP, 48-Leads, Body 12.5x6.1mm, Pitch 0.5mm, Thermal Pad 3.05x6.33mm, IPC High Density)
footprint TI-DCA48-5815X2675TP_M (SOP, 48-Leads, Body 12.5x6.1mm, Pitch 0.5mm, Thermal Pad 3.05x6.33mm, IPC Low Density)
part A pins: 1 ~{SHUTDOWN} (in) "Active-low TTL logic-level shutdown input signal. When S\H\U\T\D\O\W\N\ is held low, the device goes into shutdown mode. When S\H\U\T\D\O\W\N\ is held high, the device operates normally.", 2 ~{MUTE} (in) "Active-low TTL logic-level mute input signal. When M\U\T\E\ is held low, the selected amplifier is muted. When M\U\T\E\ is held > high, the device operates normally. When the Class-D amplifier is muted, the low-side output (See Datasheet)", 4 LINN (in) "Class-D left-channel negative input", 5 LINP (in) "Class-D left-channel positive input", 6 LCOMP "Compensation capacitor terminal for left-channel Class-D amplifier", 10 LOUTP (out) "Class-D amplifier left-channel positive output of H-bridge", 11 LOUTP (out) "Class-D amplifier left-channel positive output of H-bridge", 14 LOUTN (out) "Class-D amplifier left-channel negative output of H-bridge", 15 LOUTN (out) "Class-D amplifier left-channel negative output of H-bridge", 17 VCCREG "5-V regulator output. This terminal requires a 1-uF capacitor to ground for stability reasons.", 22 VCP (in) "Connect a capacitor from this terminal to power ground to provide storage for the charge pump output voltage.", 24 CP1 "First diode node for charge pump", 25 CP2 "First inverter switching node for charge pump", 29 V2P5 "2.5V internal reference bypass. This terminal requires a capacitor to ground.", 34 ROUTN (out) "Class-D amplifier right-channel negative output of H-bridge", 35 ROUTN (out) "Class-D amplifier right-channel negative output of H-bridge", 38 ROUTP (out) "Class-D amplifier right-channel positive output of H-bridge", 39 ROUTP (out) "Class-D amplifier right-channel positive output of H-bridge", 41 FAULT1 (oc) "Logic level fault1 output signal. Higher order bit of the two fault signals with open drain output.", 42 FAULT0 (oc) "Logic level fault0 output signal. Lower order bit of the two fault signals with open drain output.", 43 RCOMP "Compensation capacitor terminal for right-channel Class-D amplifier", 44 RINP (in) "Class-D right-channel negative input", 45 RINN (in) "Class-D right-channel negative input", 48 COSC "Connect a capacitor from analog ground to this terminal to set the frequency of the ramp reference signal."
part B pins: 3 AGND (power) "Analog ground for Class-D analog circuitry", 7 AGND (power) "Analog ground for Class-D analog circuitry", 8 VDD (power) "VDD bias supply for analog circuitry. This terminal needs to be well filtered to prevent degrading the device performance.", 9 LPVDD (power) "Class-D amplifier left-channel power supply", 12 PGND (power) "Power ground for left-channel H-bridge only", 13 PGND (power) "Power ground for left-channel H-bridge only", 16 LPVDD (power) "Class-D amplifier left-channel power supply", 20 AGND (power) "Analog ground for Class-D analog circuitry", 21 PVDD (power) "VDD supply for charge-pump and gate drive circuitry", 27 PGND (power) "Power ground for charge pump only", 28 PVDD (power) "VDD supply for charge-pump and gate drive circuitry", 32 VCC (power) "5V supply to logic. This terminal is typically connected to VCCREG.", 33 RPVDD (power) "Class-D amplifier right-channel power supply", 36 PGND (power) "Power ground for right-channel H-bridge only", 37 PGND (power) "Power ground for right-channel H-bridge only", 40 RPVDD (power) "Class-D amplifier right-channel power supply", 46 AGND (power) "Analog ground for Class-D analog circuitry", 47 AGND (power) "Analog ground for Class-D analog circuitry", 49 EP
part C pins: 18 NC "No connection", 19 NC "No connection", 23 NC "No connection", 26 NC "No connection", 30 NC "No connection", 31 NC "No connection"

## TPA032D02DCARG4
designator U?
Stereo Medium Power Class-D Audio Amplifier, -40 to 125 degC, 48-pin SOP (DCA48), Green (RoHS & no Sb/Br); Manufacturer: Texas Instruments; PartNumber: TPA032D02DCARG4; Input Type: Analog; Max. Number of Speaker Outputs: 2; SubFamily: Mid/High-Power Amplifier; DatasheetVersion: SLOS243B; PackageVersion: 4073259-2/E, 07/2011; PackageReference: DCA48-5815X2675TP; PackageDescription: 48-Pin PowerPAD(TM) Plastic Small-Outline, Body 6.1 x 12.5 mm, Pitch 0.5 mm; Supplier 1: Digi-Key; Supplier Part Number 1: TPA032D02DCARG4-ND; Supplier 2: Mouser; Supplier Part Number 2: 595-TPA032D02DCARG4; Eco-Plan: Green (RoHS & no Sb/Br); Mounting Technology: Surface Mount; Code_JEDEC: MO-153; ComponentLink1Description: Manufacturer URL; ComponentLink1URL: http://www.ti.com/; ComponentLink2Description: Datasheet; ComponentLink2URL: http://www.ti.com/general/docs/lit/getliterature.tsp?genericPartNumber=TPA032D02&fileType=pdf; ComponentLink3Description: Package Specification; ComponentLink3URL: http://www.ti.com/lit/ds/symlink/tpa032d02.pdf
footprint TI-DCA48-5815X2675TP_N (SOP, 48-Leads, Body 12.5x6.1mm, Pitch 0.5mm, Thermal Pad 3.05x6.33mm, IPC Medium Density)
footprint TI-DCA48-5815X2675TP_L (SOP, 48-Leads, Body 12.5x6.1mm, Pitch 0.5mm, Thermal Pad 3.05x6.33mm, IPC High Density)
footprint TI-DCA48-5815X2675TP_M (SOP, 48-Leads, Body 12.5x6.1mm, Pitch 0.5mm, Thermal Pad 3.05x6.33mm, IPC Low Density)
part A pins: 1 ~{SHUTDOWN} (in) "Active-low TTL logic-level shutdown input signal. When S\H\U\T\D\O\W\N\ is held low, the device goes into shutdown mode. When S\H\U\T\D\O\W\N\ is held high, the device operates normally.", 2 ~{MUTE} (in) "Active-low TTL logic-level mute input signal. When M\U\T\E\ is held low, the selected amplifier is muted. When M\U\T\E\ is held > high, the device operates normally. When the Class-D amplifier is muted, the low-side output (See Datasheet)", 4 LINN (in) "Class-D left-channel negative input", 5 LINP (in) "Class-D left-channel positive input", 6 LCOMP "Compensation capacitor terminal for left-channel Class-D amplifier", 10 LOUTP (out) "Class-D amplifier left-channel positive output of H-bridge", 11 LOUTP (out) "Class-D amplifier left-channel positive output of H-bridge", 14 LOUTN (out) "Class-D amplifier left-channel negative output of H-bridge", 15 LOUTN (out) "Class-D amplifier left-channel negative output of H-bridge", 17 VCCREG "5-V regulator output. This terminal requires a 1-uF capacitor to ground for stability reasons.", 22 VCP (in) "Connect a capacitor from this terminal to power ground to provide storage for the charge pump output voltage.", 24 CP1 "First diode node for charge pump", 25 CP2 "First inverter switching node for charge pump", 29 V2P5 "2.5V internal reference bypass. This terminal requires a capacitor to ground.", 34 ROUTN (out) "Class-D amplifier right-channel negative output of H-bridge", 35 ROUTN (out) "Class-D amplifier right-channel negative output of H-bridge", 38 ROUTP (out) "Class-D amplifier right-channel positive output of H-bridge", 39 ROUTP (out) "Class-D amplifier right-channel positive output of H-bridge", 41 FAULT1 (oc) "Logic level fault1 output signal. Higher order bit of the two fault signals with open drain output.", 42 FAULT0 (oc) "Logic level fault0 output signal. Lower order bit of the two fault signals with open drain output.", 43 RCOMP "Compensation capacitor terminal for right-channel Class-D amplifier", 44 RINP (in) "Class-D right-channel negative input", 45 RINN (in) "Class-D right-channel negative input", 48 COSC "Connect a capacitor from analog ground to this terminal to set the frequency of the ramp reference signal."
part B pins: 3 AGND (power) "Analog ground for Class-D analog circuitry", 7 AGND (power) "Analog ground for Class-D analog circuitry", 8 VDD (power) "VDD bias supply for analog circuitry. This terminal needs to be well filtered to prevent degrading the device performance.", 9 LPVDD (power) "Class-D amplifier left-channel power supply", 12 PGND (power) "Power ground for left-channel H-bridge only", 13 PGND (power) "Power ground for left-channel H-bridge only", 16 LPVDD (power) "Class-D amplifier left-channel power supply", 20 AGND (power) "Analog ground for Class-D analog circuitry", 21 PVDD (power) "VDD supply for charge-pump and gate drive circuitry", 27 PGND (power) "Power ground for charge pump only", 28 PVDD (power) "VDD supply for charge-pump and gate drive circuitry", 32 VCC (power) "5V supply to logic. This terminal is typically connected to VCCREG.", 33 RPVDD (power) "Class-D amplifier right-channel power supply", 36 PGND (power) "Power ground for right-channel H-bridge only", 37 PGND (power) "Power ground for right-channel H-bridge only", 40 RPVDD (power) "Class-D amplifier right-channel power supply", 46 AGND (power) "Analog ground for Class-D analog circuitry", 47 AGND (power) "Analog ground for Class-D analog circuitry", 49 EP
part C pins: 18 NC "No connection", 19 NC "No connection", 23 NC "No connection", 26 NC "No connection", 30 NC "No connection", 31 NC "No connection"

## TPA152D
designator U?
Hi-Fi, Stereo Headphone Audio Amplifier, -40 to 85 degC, 8-pin SOIC (D8), Green (RoHS & no Sb/Br); Manufacturer: Texas Instruments; PartNumber: TPA152D; Load(Min)(ohms): 32; Output Power(W): 0.075; PSRR(dB): 65; SubFamily: Headphone Amplifier; Supply Max(Max)(Volt): 5.5; Supply Min(Min)(Volt): 4.5; THD(%): 0.2; DatasheetVersion: SLOS210A; PackageVersion: 4040047-3/M, 06/2011; PackageReference: D8; PackageDescription: 8-Pin Plastic Small Outline, Body 4.9 x 3.9 mm, Pitch 1.27 mm; Supplier 1: Digi-Key; Supplier Part Number 1: 296-1944-5-ND; Supplier 2: Farnell; Supplier Part Number 2: 8456399; Supplier 3: Newark; Supplier Part Number 3: 38K8590; Supplier 4: Newark; Supplier Part Number 4: 20M5851; Supplier 5: Mouser; Supplier Part Number 5: 595-TPA152D; Eco-Plan: Green (RoHS & no Sb/Br); Headphone Channels: Stereo; Mounting Technology: Surface Mount; Code_JEDEC: MS-012; ComponentLink1Description: Manufacturer URL; ComponentLink1URL: http://www.ti.com/; ComponentLink2Description: Datasheet; ComponentLink2URL: http://www.ti.com/general/docs/lit/getliterature.tsp?genericPartNumber=TPA152&fileType=pdf; ComponentLink3Description: Package Specification; ComponentLink3URL: http://www.ti.com/litv/pdf/msoi002j
footprint TI-D8_N (SOIC, 8-Leads, Body 5x4mm, Pitch 1.27mm, IPC Medium Density)
footprint TI-D8_L (SOIC, 8-Leads, Body 5x4mm, Pitch 1.27mm, IPC High Density)
footprint TI-D8_M (SOIC, 8-Leads, Body 5x4mm, Pitch 1.27mm, IPC Low Density)
pins: 1 VO1 (out) "VO1 is the audio output for channel 1.", 2 MUTE (in) "A logic high puts the device into MUTE mode.", 3 BYPASS "BYPASS is the tap to the voltage divider for internal mid-supply bias. This terminal should be connected to a 0.1-uf to 1-uF capacitor.", 4 IN2- (in) "IN2- is the inverting input for channel 2.", 5 VO2 (out) "VO2 is the audio output for channel 1.", 6 VDD (power) "VDD is the supply voltage terminal.", 7 GND (power) "GND is the ground connection.", 8 IN1- (in) "IN1- is the inverting input for channel 1."